# Altium footprint library XT30PW-M3D.PcbLib: 1 footprints
Each footprint in its own frame and in the unit in brackets; x right, y up, seen from the top. Pads: shape width x height; smd on the part's side, far side on the other; paste and mask are expansions set on the pad; w line width, h text height; cw(c..) or ccw(c..) is an arc to the next point about the centre after c.
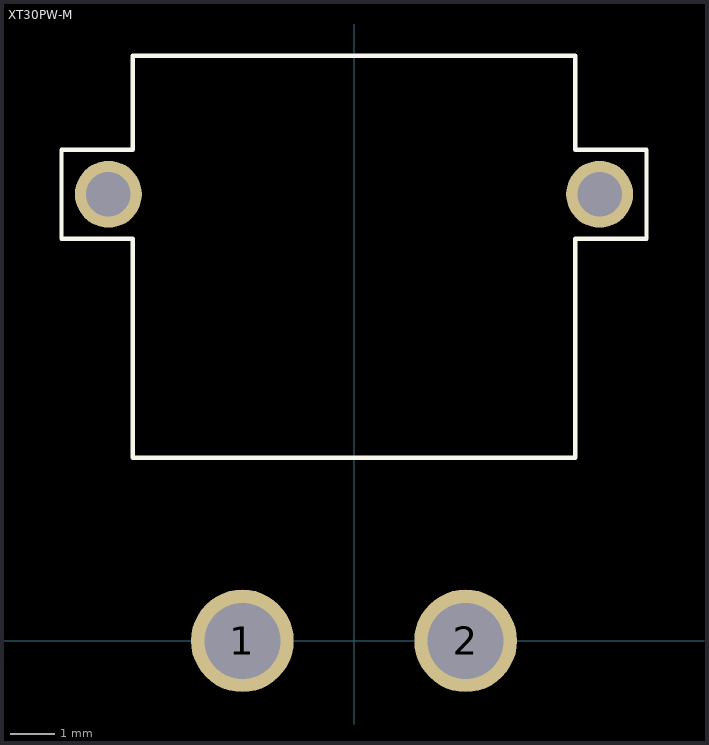
[diagram p0: the footprint, top view; thin cyan lines are the x and y axes]

## XT30PW-M [mm] "15a"
height 5
pads (4):
  round 2.3 hole 1.7: 1(-2.5,0) 2(2.5,0)
  round 1.5 hole 1: ""(-5.5,10) ""(5.5,10)
Top Overlay:
  lines w0.1: -6.55,9 -6.55,11 -4.95,11 -4.95,13.1 4.95,13.1 4.95,11 6.55,11 6.55,9 4.95,9 4.95,4.1 -4.95,4.1 -4.95,9 -6.55,9
3D body "XT30PW-M 3D DRAWING.STEP": height 5.05, standoff -2.15, extent -6.574,-0.996 6.726,12.954